# EAGLE library part 0532610671 (library con-molex)
Molex: 6 pin 1.25mm Right Angle SMD connector
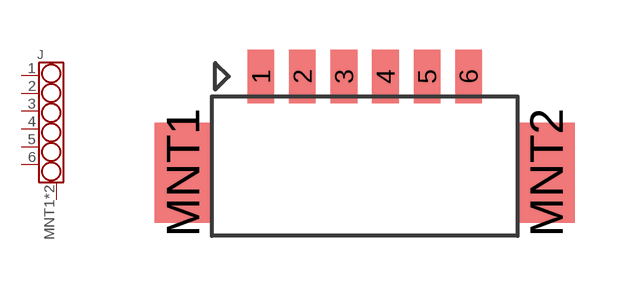
[diagram p2: symbol with the pads of 0532610671; footprint 0532610671]

Designator prefix J

## 0532610671 (DIGIKEY: WM7624CT-ND; MFR: Molex; MPN: 0532610671)  [0532610671]
1  1
2  2
3  3
4  4
5  5
6  6
MNT1  MNT
MNT2  MNT

## Footprint 0532610671 (pad centres in mm)
smd 0.8 x 1.6: 1 -3.125,2.5; 2 -1.875,2.5; 3 -0.625,2.5; 4 0.625,2.5; 5 1.875,2.5; 6 3.125,2.5
smd 1.7 x 3: MNT1 -5.475,-0.4; MNT2 5.475,-0.4